# Altium footprint library WR-TBL_Rising Cage Clamp_5.00mm.PcbLib: 76 footprints (part 1 of 5)
Each footprint in its own frame and in the unit in brackets; x right, y up, seen from the top. Pads: shape width x height; smd on the part's side, far side on the other; paste and mask are expansions set on the pad; w line width, h text height; cw(c..) or ccw(c..) is an arc to the next point about the centre after c.
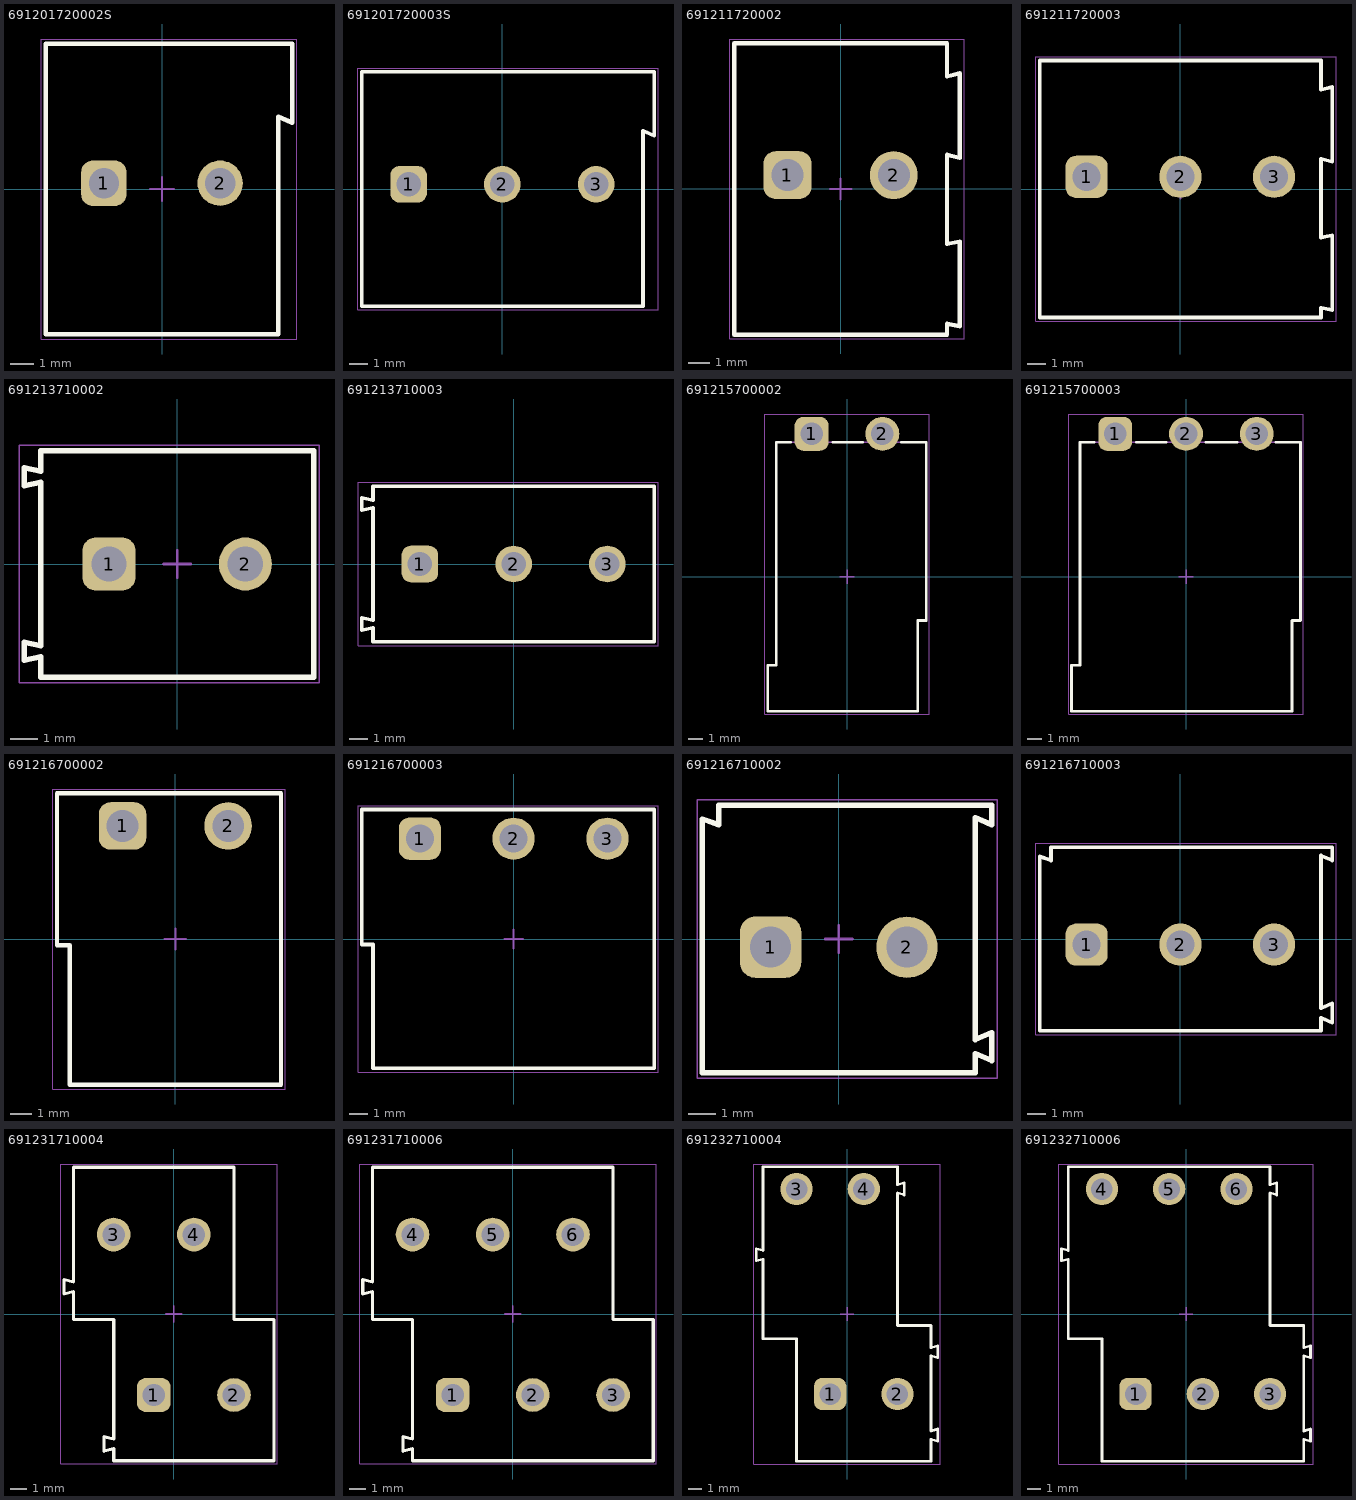
[diagram p0: the footprints below, top view; thin cyan lines are the x and y axes]

## 691201720002S [mm] "Serie 201S - 5.00 mm _ 2 pins"
height 12
pads (2):
  rrect50% 1.95x1.95 hole 1.3: 1(-2.5,0.25)
  round 1.95 hole 1.3: 2(2.5,0.25)
Top Overlay:
  lines w0.2: -5,-6.25 5,-6.25 5,3.1 5.6,2.85 5.6,6.25 -5,6.25 -5,-6.25
Top Assembly:
  lines w0.1: -5,-6.25 -5,6.25 5.6,6.25 5.6,2.85 5,3.1 5,-6.25 -5,-6.25
Top Designator:
  text ".Designator" at -3.647,-0.357 h1
Top 3D Body:
  lines w0.1: -5,-6.25 5,-6.25 5,3.1 5.6,2.85 5.6,6.25 -5,6.25 -5,-6.25
Top Courtyard:
  lines w0.05: -5.2,-6.45 -5.2,6.45 5.8,6.45 5.8,-6.45 -5.2,-6.45
Top Component Center:
  lines w0.1: -0.5,0 0.5,0 ; 0,-0.5 0,0.5
3D body "691201720002S.stp": height 12.1, standoff -4.4, extent -5,-6.3 5.6,6.2

## 691201720003S [mm] "Serie 201S - 5.00 mm _ 3 pins"
height 12
pads (3):
  rrect50% 1.95x1.95 hole 1.3: 1(-5,0.25)
  round 1.95 hole 1.3: 2(0,0.25) 3(5,0.25)
Top Overlay:
  lines w0.2: -7.5,-6.25 -7.5,6.25 8.1,6.25 8.1,2.85 7.5,3.1 7.5,-6.25 -7.5,-6.25
Top Assembly:
  lines w0.1: -7.5,-6.25 7.5,-6.25 7.5,3.1 8.1,2.85 8.1,6.25 -7.5,6.25 -7.5,-6.25
Top Designator:
  text ".Designator" at -3.647,-0.357 h1
Top 3D Body:
  lines w0.1: -7.5,-6.25 -7.5,6.25 8.1,6.25 8.1,2.85 7.5,3.1 7.5,-6.25 -7.5,-6.25
Top Courtyard:
  lines w0.05: -7.7,-6.45 8.3,-6.45 8.3,6.45 -7.7,6.45 -7.7,-6.45
Top Component Center:
  lines w0.1: -0.5,0 0.5,0 ; 0,-0.5 0,0.5
3D body "691201720003S.stp": height 12.1, standoff -4.4, extent -7.5,-6.3 8.1,6.2

## 691211720002 [mm] "5,00mm - modular - green -45¡ã entry with rising cage clamp - 02p"
height 15.5
pads (2):
  rrect50% 2.25x2.25 hole 1.5: 1(-2.5,0.65)
  round 2.25 hole 1.5: 2(2.5,0.65)
Top Overlay:
  lines w0.2: -5,-6.85 -5,6.85 5,6.85 5,5.29 5.6,5.44 5.6,1.46 5,1.61 5,-2.59 5.6,-2.47 5.6,-6.45 5,-6.33 5,-6.85 -5,-6.85
Top Assembly:
  lines w0.1: -5,-6.85 5,-6.85 5,-6.33 5.6,-6.45 5.6,-2.47 5,-2.59 5,1.61 5.6,1.46 5.6,5.44 5,5.29 5,6.85 -5,6.85 -5,-6.85
Top Designator:
  text ".Designator" at -3.647,-0.357 h1
Top 3D Body:
  lines w0.1: -5,-6.85 -5,6.85 5,6.85 5,5.29 5.6,5.44 5.6,1.46 5,1.61 5,-2.59 5.6,-2.47 5.6,-6.45 5,-6.33 5,-6.85 -5,-6.85
Top Courtyard:
  lines w0.05: -5.2,-7.05 5.8,-7.05 5.8,7.05 -5.2,7.05 -5.2,-7.05
Top Component Center:
  lines w0.1: -0.5,0 0.5,0 ; 0,-0.5 0,0.5
3D body "691211720002.stp": height 15.72, standoff -3.38, extent -5,-6.85 5.6,6.85

## 691211720003 [mm] "5,00mm - modular - green -45¡ã entry with rising cage clamp - 03p"
height 15.5
pads (3):
  rrect50% 2.25x2.25 hole 1.5: 1(-5,0.65)
  round 2.25 hole 1.5: 2(0,0.65) 3(5,0.65)
Top Overlay:
  lines w0.2: -7.5,-6.85 -7.5,6.85 7.5,6.85 7.5,5.29 8.1,5.44 8.1,1.46 7.5,1.61 7.5,-2.59 8.1,-2.47 8.1,-6.45 7.5,-6.33 7.5,-6.85 -7.5,-6.85
Top Assembly:
  lines w0.1: -7.5,-6.85 7.5,-6.85 7.5,-6.33 8.1,-6.45 8.1,-2.47 7.5,-2.59 7.5,1.61 8.1,1.46 8.1,5.44 7.5,5.29 7.5,6.85 -7.5,6.85 -7.5,-6.85
Top Designator:
  text ".Designator" at -3.647,-0.357 h1
Top 3D Body:
  lines w0.1: -7.5,-6.85 -7.5,6.85 7.5,6.85 7.5,5.29 8.1,5.44 8.1,1.46 7.5,1.61 7.5,-2.59 8.1,-2.47 8.1,-6.45 7.5,-6.33 7.5,-6.85 -7.5,-6.85
Top Courtyard:
  lines w0.05: -7.7,-7.05 8.3,-7.05 8.3,7.05 -7.7,7.05 -7.7,-7.05
Top Component Center:
  lines w0.1: -0.5,0 0.5,0 ; 0,-0.5 0,0.5
3D body "691211720003.stp": height 15.72, standoff -3.38, extent -7.5,-6.85 8.1,6.85

## 691213710002 [mm] "5,00mm - modular - green - Horizontal entry with rising cage clamp -  10,0mm height - 02p"
height 10
pads (2):
  rrect50% 1.95x1.95 hole 1.3: 1(-2.5,0)
  round 1.95 hole 1.3: 2(2.5,0)
Top Overlay:
  lines w0.2: -5.6,-3.525 -5.6,-2.875 -5,-3 -5,3 -5.6,2.875 -5.6,3.525 -5,3.4 -5,4.15 5,4.15 5,-4.15 -5,-4.15 -5,-3.4 -5.6,-3.525
Top Assembly:
  lines w0.1: -5.6,-3.525 -5,-3.4 -5,-4.15 5,-4.15 5,4.15 -5,4.15 -5,3.4 -5.6,3.525 -5.6,2.875 -5,3 -5,-3 -5.6,-2.875 -5.6,-3.525
Top Designator:
  text ".Designator" at -3.647,-0.357 h1
Top 3D Body:
  lines w0.1: -5.6,-3.525 -5.6,-2.875 -5,-3 -5,3 -5.6,2.875 -5.6,3.525 -5,3.4 -5,4.15 5,4.15 5,-4.15 -5,-4.15 -5,-3.4 -5.6,-3.525
Top Courtyard:
  lines w0.05: -5.8,-4.35 5.2,-4.35 5.2,4.35 -5.8,4.35 -5.8,-4.35
Top Component Center:
  lines w0.1: -0.5,0 0.5,0 ; 0,-0.5 0,0.5
3D body "691213710002.stp": height 10.05, standoff -3.75, extent -5.6,-4.15 5,4.15

## 691213710003 [mm] "5,00mm - modular - green - Horizontal entry with rising cage clamp -  10,0mm height - 03p"
height 10
pads (3):
  rrect50% 1.95x1.95 hole 1.3: 1(-5,0)
  round 1.95 hole 1.3: 2(0,0) 3(5,0)
Top Overlay:
  lines w0.2: -8.1,-3.525 -7.5,-3.4 -7.5,-4.15 7.5,-4.15 7.5,4.15 -7.5,4.15 -7.5,3.4 -8.1,3.525 -8.1,2.875 -7.5,3 -7.5,-3 -8.1,-2.875 -8.1,-3.525
Top Assembly:
  lines w0.1: -8.1,-3.525 -8.1,-2.875 -7.5,-3 -7.5,3 -8.1,2.875 -8.1,3.525 -7.5,3.4 -7.5,4.15 7.5,4.15 7.5,-4.15 -7.5,-4.15 -7.5,-3.4 -8.1,-3.525
Top Designator:
  text ".Designator" at -3.647,-0.357 h1
Top 3D Body:
  lines w0.1: -8.1,-3.525 -7.5,-3.4 -7.5,-4.15 7.5,-4.15 7.5,4.15 -7.5,4.15 -7.5,3.4 -8.1,3.525 -8.1,2.875 -7.5,3 -7.5,-3 -8.1,-2.875 -8.1,-3.525
Top Courtyard:
  lines w0.05: -8.3,-4.35 -8.3,4.35 7.7,4.35 7.7,-4.35 -8.3,-4.35
Top Component Center:
  lines w0.1: -0.5,0 0.5,0 ; 0,-0.5 0,0.5
3D body "691213710003.stp": height 10.05, standoff -3.75, extent -8.1,-4.15 7.5,4.15

## 691215700002 [mm]
height 10.5
pads (2):
  rrect50% 2.4x2.4 hole 1.6: 1(-2.5,10.1)
  round 2.4 hole 1.6: 2(2.5,10.1)
Top Overlay:
  lines w0.2: -4,9.5 -5,9.5 -5,-6.25 -5.6,-6.25 -5.6,-9.5 5,-9.5 5,-3.1 5.6,-3.1 5.6,9.5 3.85,9.5 ; -1,9.5 1.1,9.5
Top Assembly:
  lines w0.1: -5.6,-9.5 -5.6,-6.25 -5,-6.25 -5,9.5 5.6,9.5 5.6,-3.1 5,-3.1 5,-9.5 -5.6,-9.5
Top Designator:
  text ".Designator" at -3.647,-0.357 h1
Top 3D Body:
  lines w0.1: -5.6,-9.5 5,-9.5 5,-3.1 5.6,-3.1 5.6,9.5 -5,9.5 -5,-6.25 -5.6,-6.25 -5.6,-9.5
Top Courtyard:
  lines w0.05: -5.8,-9.7 -5.8,11.5 5.8,11.5 5.8,-9.7 -5.8,-9.7
Top Component Center:
  lines w0.1: -0.5,0 0.5,0 ; 0,-0.5 0,0.5
3D body "691215700002.stp": height 10.53, standoff -3.97, extent -5.6,-9.5 5.6,10.5

## 691215700003 [mm]
height 10.5
pads (3):
  rrect50% 2.4x2.4 hole 1.6: 1(-5,10.1)
  round 2.4 hole 1.6: 2(0,10.1) 3(5,10.1)
Top Overlay:
  lines w0.2: -6.5,9.5 -7.5,9.5 -7.5,-6.25 -8.1,-6.25 -8.1,-9.5 7.5,-9.5 7.5,-3.1 8.1,-3.1 8.1,9.5 6.35,9.5 ; -3.5,9.5 -1.4,9.5 ; 1.4,9.5 3.6,9.5
Top Assembly:
  lines w0.1: -8.1,-9.5 7.5,-9.5 7.5,-3.1 8.1,-3.1 8.1,9.5 -7.5,9.5 -7.5,-6.25 -8.1,-6.25 -8.1,-9.5
Top Designator:
  text ".Designator" at -3.647,-0.357 h1
Top 3D Body:
  lines w0.1: -8.1,-9.5 -8.1,-6.25 -7.5,-6.25 -7.5,9.5 8.1,9.5 8.1,-3.1 7.5,-3.1 7.5,-9.5 -8.1,-9.5
Top Courtyard:
  lines w0.05: -8.3,-9.7 8.3,-9.7 8.3,11.5 -8.3,11.5 -8.3,-9.7
Top Component Center:
  lines w0.1: -0.5,0 0.5,0 ; 0,-0.5 0,0.5
3D body "691215700003.stp": height 10.53, standoff -3.97, extent -8.1,-9.5 8.1,10.5

## 691216700002 [mm] "Serie 2167 - 5.00 mm _ 2 pins"
height 9.8
pads (2):
  rrect50% 2.25x2.25 hole 1.5: 1(-2.5,5.35)
  round 2.25 hole 1.5: 2(2.5,5.35)
Top Overlay:
  lines w0.2: -5.6,-0.3 -5.6,6.9 5,6.9 5,-6.9 -5,-6.9 -5,-0.3 -5.6,-0.3
Top Assembly:
  lines w0.1: -5.6,-0.3 -5,-0.3 -5,-6.9 5,-6.9 5,6.9 -5.6,6.9 -5.6,-0.3
Top Designator:
  text ".Designator" at -3.647,-0.357 h1
Top 3D Body:
  lines w0.1: -5.6,-0.3 -5.6,6.9 5,6.9 5,-6.9 -5,-6.9 -5,-0.3 -5.6,-0.3
Top Courtyard:
  lines w0.05: -5.8,-7.1 5.2,-7.1 5.2,7.1 -5.8,7.1 -5.8,-7.1
Top Component Center:
  lines w0.1: -0.5,0 0.5,0 ; 0,-0.5 0,0.5
3D body "691216700002.stp": height 9.9, standoff -3.4, extent -5.6,-6.9 5,6.9

## 691216700003 [mm] "Serie 2167 - 5.00 mm _ 3 pins"
height 9.8
pads (3):
  rrect50% 2.25x2.25 hole 1.5: 1(-5,5.35)
  round 2.25 hole 1.5: 2(0,5.35) 3(5,5.35)
Top Overlay:
  lines w0.2: -8.1,-0.3 -7.5,-0.3 -7.5,-6.9 7.5,-6.9 7.5,6.9 -8.1,6.9 -8.1,-0.3
Top Assembly:
  lines w0.1: -8.1,-0.3 -8.1,6.9 7.5,6.9 7.5,-6.9 -7.5,-6.9 -7.5,-0.3 -8.1,-0.3
Top Designator:
  text ".Designator" at -3.647,-0.357 h1
Top 3D Body:
  lines w0.1: -8.1,-0.3 -7.5,-0.3 -7.5,-6.9 7.5,-6.9 7.5,6.9 -8.1,6.9 -8.1,-0.3
Top Courtyard:
  lines w0.05: -8.3,-7.1 -8.3,7.1 7.7,7.1 7.7,-7.1 -8.3,-7.1
Top Component Center:
  lines w0.1: -0.5,0 0.5,0 ; 0,-0.5 0,0.5
3D body "691216700003.stp": height 9.9, standoff -3.4, extent -8.1,-6.9 7.5,6.9

## 691216710002 [mm] "Serie 2167 - 5.00 mm _ 2 pins"
height 13.8
pads (2):
  rrect50% 2.25x2.25 hole 1.5: 1(-2.5,-0.3)
  round 2.25 hole 1.5: 2(2.5,-0.3)
Top Overlay:
  lines w0.2: -5,-4.9 -5,4.4 -4.4,4.19 -4.4,4.9 5.6,4.9 5.6,4.19 5,4.45 5,-3.69 5.6,-3.43 5.6,-4.46 5,-4.2 5,-4.9 -5,-4.9
Top Assembly:
  lines w0.1: -5,-4.9 5,-4.9 5,-4.2 5.6,-4.46 5.6,-3.43 5,-3.69 5,4.45 5.6,4.19 5.6,4.9 -4.4,4.9 -4.4,4.19 -5,4.4 -5,-4.9
Top Designator:
  text ".Designator" at -3.647,-0.357 h1
Top 3D Body:
  lines w0.1: -5,-4.9 -5,4.4 -4.4,4.19 -4.4,4.9 5.6,4.9 5.6,4.19 5,4.45 5,-3.69 5.6,-3.43 5.6,-4.46 5,-4.2 5,-4.9 -5,-4.9
Top Courtyard:
  lines w0.05: -5.2,-5.1 -5.2,5.1 5.8,5.1 5.8,-5.1 -5.2,-5.1
Top Component Center:
  lines w0.1: -0.5,0 0.5,0 ; 0,-0.5 0,0.5
3D body "691216710002.stp": height 13.85, standoff -3.45, extent -5,-4.9 5.6,4.9

## 691216710003 [mm] "Serie 2167 - 5.00 mm _ 3 pins"
height 13.8
pads (3):
  rrect50% 2.25x2.25 hole 1.5: 1(-5,-0.3)
  round 2.25 hole 1.5: 2(0,-0.3) 3(5,-0.3)
Top Overlay:
  lines w0.2: -7.5,-4.9 -7.5,4.4 -6.9,4.19 -6.9,4.9 8.1,4.9 8.1,4.19 7.5,4.45 7.5,-3.69 8.1,-3.43 8.1,-4.46 7.5,-4.2 7.5,-4.9 -7.5,-4.9
Top Assembly:
  lines w0.1: -7.5,-4.9 7.5,-4.9 7.5,-4.2 8.1,-4.46 8.1,-3.43 7.5,-3.69 7.5,4.45 8.1,4.19 8.1,4.9 -6.9,4.9 -6.9,4.19 -7.5,4.4 -7.5,-4.9
Top Designator:
  text ".Designator" at -3.647,-0.357 h1
Top 3D Body:
  lines w0.1: -7.5,-4.9 -7.5,4.4 -6.9,4.19 -6.9,4.9 8.1,4.9 8.1,4.19 7.5,4.45 7.5,-3.69 8.1,-3.43 8.1,-4.46 7.5,-4.2 7.5,-4.9 -7.5,-4.9
Top Courtyard:
  lines w0.05: -7.7,-5.1 -7.7,5.1 8.3,5.1 8.3,-5.1 -7.7,-5.1
Top Component Center:
  lines w0.1: -0.5,0 0.5,0 ; 0,-0.5 0,0.5
3D body "691216710003.stp": height 13.85, standoff -3.45, extent -7.5,-4.9 8.1,4.9

## 691231710004 [mm] "5,00mm - modular - 2 rows - Right - horizontal entry with rising cage clamp - 04p - h=19,1mm"
height 19.1
pads (4):
  rrect50% 2.1x2.1 hole 1.4: 1(-1.25,-5.05)
  round 2.1 hole 1.4: 2(3.75,-5.05) 3(-3.75,4.95) 4(1.25,4.95)
Top Overlay:
  lines w0.2: -6.85,1.25 -6.85,2.15 -6.25,2 -6.25,9.15 3.75,9.15 3.75,-0.35 6.25,-0.35 6.25,-9.15 -3.75,-9.15 -3.75,-8.4 -4.35,-8.55 -4.35,-7.65 -3.75,-7.8 -3.75,-0.35 -6.25,-0.35 -6.25,1.4 -6.85,1.25
Top Assembly:
  lines w0.1: -6.85,1.25 -6.25,1.4 -6.25,-0.35 -3.75,-0.35 -3.75,-7.8 -4.35,-7.65 -4.35,-8.55 -3.75,-8.4 -3.75,-9.15 6.25,-9.15 6.25,-0.35 3.75,-0.35 3.75,9.15 -6.25,9.15 -6.25,2 -6.85,2.15 -6.85,1.25
Top Designator:
  text ".Designator" at -3.647,-0.357 h1
Top 3D Body:
  lines w0.1: -6.85,1.25 -6.85,2.15 -6.25,2 -6.25,9.15 3.75,9.15 3.75,-0.35 6.25,-0.35 6.25,-9.15 -3.75,-9.15 -3.75,-8.4 -4.35,-8.55 -4.35,-7.65 -3.75,-7.8 -3.75,-0.35 -6.25,-0.35 -6.25,1.4 -6.85,1.25
Top Courtyard:
  lines w0.05: -7.05,-9.35 -7.05,9.35 6.45,9.35 6.45,-9.35 -7.05,-9.35
Top Component Center:
  lines w0.1: -0.5,0 0.5,0 ; 0,-0.5 0,0.5
3D body "691231710004.stp": height 19.15, standoff -3.45, extent -6.85,-9.15 6.25,9.15

## 691231710006 [mm] "5,00mm - modular - 2 rows - Right - horizontal entry with rising cage clamp - 06p - h=19,1mm"
height 19.1
pads (6):
  rrect50% 2.1x2.1 hole 1.4: 1(-3.75,-5.05)
  round 2.1 hole 1.4: 2(1.25,-5.05) 3(6.25,-5.05) 4(-6.25,4.95) 5(-1.25,4.95) 6(3.75,4.95)
Top Overlay:
  lines w0.2: -9.35,1.25 -9.35,2.15 -8.75,2 -8.75,9.15 6.25,9.15 6.25,-0.35 8.75,-0.35 8.75,-9.15 -6.25,-9.15 -6.25,-8.4 -6.85,-8.55 -6.85,-7.65 -6.25,-7.8 -6.25,-0.35 -8.75,-0.35 -8.75,1.4 -9.35,1.25
Top Assembly:
  lines w0.1: -9.35,1.25 -8.75,1.4 -8.75,-0.35 -6.25,-0.35 -6.25,-7.8 -6.85,-7.65 -6.85,-8.55 -6.25,-8.4 -6.25,-9.15 8.75,-9.15 8.75,-0.35 6.25,-0.35 6.25,9.15 -8.75,9.15 -8.75,2 -9.35,2.15 -9.35,1.25
Top Designator:
  text ".Designator" at -3.647,-0.357 h1
Top 3D Body:
  lines w0.1: -9.35,1.25 -9.35,2.15 -8.75,2 -8.75,9.15 6.25,9.15 6.25,-0.35 8.75,-0.35 8.75,-9.15 -6.25,-9.15 -6.25,-8.4 -6.85,-8.55 -6.85,-7.65 -6.25,-7.8 -6.25,-0.35 -8.75,-0.35 -8.75,1.4 -9.35,1.25
Top Courtyard:
  lines w0.05: -9.55,-9.35 -9.55,9.35 8.95,9.35 8.95,-9.35 -9.55,-9.35
Top Component Center:
  lines w0.1: -0.5,0 0.5,0 ; 0,-0.5 0,0.5
3D body "691231710006.stp": height 19.15, standoff -3.45, extent -9.35,-9.15 8.75,9.15

## 691232710004 [mm] "5,00mm - modular - 2 rows - Right - horizontal entry with rising cage clamp - 04p - h=25,3mm"
height 25.3
pads (4):
  rrect50% 2.4x2.4 hole 1.6: 1(-1.25,-5.95)
  round 2.4 hole 1.6: 2(3.75,-5.95) 3(-3.75,9.29) 4(1.25,9.29)
Top Overlay:
  lines w0.2: -3.85,-1.85 -6.25,-1.85 -6.25,-0.85 -6.25,4.075 -6.75,3.95 -6.75,4.85 -6.25,4.725 -6.25,10.95 3.75,10.95 3.75,9.6 4.25,9.75 4.25,8.85 3.75,9 3.75,-0.85 6.25,-0.85 6.25,-2.5 6.75,-2.35 6.75,-3.25 6.25,-3.1 6.25,-8.7 6.75,-8.55 6.75,-9.45 6.25,-9.3 6.25,-10.95 -3.75,-10.95 -3.75,-1.85
Top Assembly:
  lines w0.1: -3.85,-1.85 -6.25,-1.85 -6.25,-0.85 -6.25,4.075 -6.75,3.95 -6.75,4.85 -6.25,4.725 -6.25,10.95 3.75,10.95 3.75,9.6 4.25,9.75 4.25,8.85 3.75,9 3.75,-0.85 6.25,-0.85 6.25,-2.5 6.75,-2.35 6.75,-3.25 6.25,-3.1 6.25,-8.7 6.75,-8.55 6.75,-9.45 6.25,-9.3 6.25,-10.95 -3.75,-10.95 -3.75,-1.85
Top Designator:
  text ".Designator" at -3.647,-0.357 h1
Top 3D Body:
  lines w0.1: -3.85,-1.85 -6.25,-1.85 -6.25,-0.85 -6.25,4.075 -6.75,3.95 -6.75,4.85 -6.25,4.725 -6.25,10.95 3.75,10.95 3.75,9.6 4.25,9.75 4.25,8.85 3.75,9 3.75,-0.85 6.25,-0.85 6.25,-2.5 6.75,-2.35 6.75,-3.25 6.25,-3.1 6.25,-8.7 6.75,-8.55 6.75,-9.45 6.25,-9.3 6.25,-10.95 -3.75,-10.95 -3.75,-1.85
Top Courtyard:
  lines w0.05: -6.95,-11.15 -6.95,11.15 6.95,11.15 6.95,-11.15 -6.95,-11.15
Top Component Center:
  lines w0.1: -0.5,0 0.5,0 ; 0,-0.5 0,0.5
3D body "691232710004.stp": height 25.35, standoff -3.45, extent -6.8,-10.95 6.8,10.95

## 691232710006 [mm] "5,00mm - modular - 2 rows - Right - horizontal entry with rising cage clamp - 06p - h=25,3mm"
height 25.3
pads (6):
  rrect50% 2.4x2.4 hole 1.6: 1(-3.75,-5.95)
  round 2.4 hole 1.6: 2(1.25,-5.95) 3(6.25,-5.95) 4(-6.25,9.29) 5(-1.25,9.29) 6(3.75,9.29)
Top Overlay:
  lines w0.2: -6.35,-1.85 -8.75,-1.85 -8.75,-0.85 -8.75,4.075 -9.25,3.95 -9.25,4.85 -8.75,4.725 -8.75,10.95 6.25,10.95 6.25,9.6 6.75,9.75 6.75,8.85 6.25,9 6.25,-0.85 8.75,-0.85 8.75,-2.5 9.25,-2.35 9.25,-3.25 8.75,-3.1 8.75,-8.7 9.25,-8.55 9.25,-9.45 8.75,-9.3 8.75,-10.95 -6.25,-10.95 -6.25,-1.85
Top Assembly:
  lines w0.1: -6.35,-1.85 -8.75,-1.85 -8.75,-0.85 -8.75,4.075 -9.25,3.95 -9.25,4.85 -8.75,4.725 -8.75,10.95 6.25,10.95 6.25,9.6 6.75,9.75 6.75,8.85 6.25,9 6.25,-0.85 8.75,-0.85 8.75,-2.5 9.25,-2.35 9.25,-3.25 8.75,-3.1 8.75,-8.7 9.25,-8.55 9.25,-9.45 8.75,-9.3 8.75,-10.95 -6.25,-10.95 -6.25,-1.85
Top Designator:
  text ".Designator" at -3.647,-0.357 h1
Top 3D Body:
  lines w0.1: -6.35,-1.85 -8.75,-1.85 -8.75,-0.85 -8.75,4.075 -9.25,3.95 -9.25,4.85 -8.75,4.725 -8.75,10.95 6.25,10.95 6.25,9.6 6.75,9.75 6.75,8.85 6.25,9 6.25,-0.85 8.75,-0.85 8.75,-2.5 9.25,-2.35 9.25,-3.25 8.75,-3.1 8.75,-8.7 9.25,-8.55 9.25,-9.45 8.75,-9.3 8.75,-10.95 -6.25,-10.95 -6.25,-1.85
Top Courtyard:
  lines w0.05: -9.45,-11.15 -9.45,11.15 9.45,11.15 9.45,-11.15 -9.45,-11.15
Top Component Center:
  lines w0.1: -0.5,0 0.5,0 ; 0,-0.5 0,0.5
3D body "691232710006.stp": height 25.35, standoff -3.45, extent -9.3,-10.95 9.3,10.95